# EAGLE library part CAMERA_BREAKOUT (library MRDT-2015-General)
Breakout board for the rover's main camera
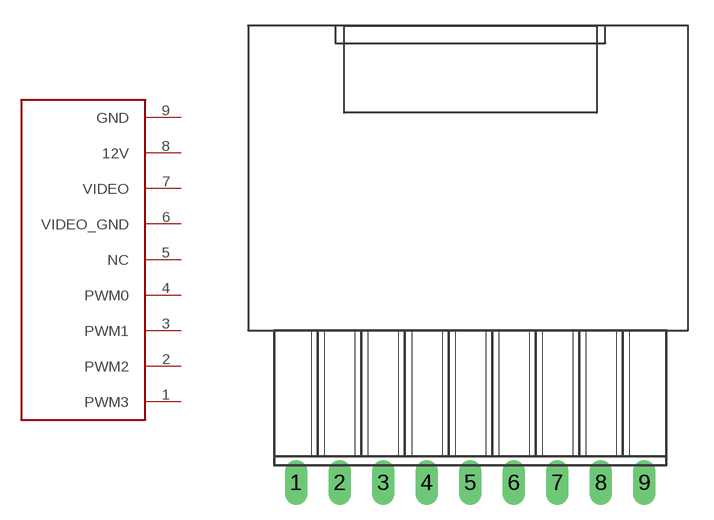
[diagram p12: symbol with the pads of CAM_CONNECTOR; footprint CAM_CONNECTOR]

Designator prefix -

## CAMERA_BREAKOUT  [CAM_CONNECTOR]
1  PWM3
2  PWM2
3  PWM1
4  PWM0
5  NC
6  VIDEO_GND
7  VIDEO
8  12V
9  GND

## Footprint CAM_CONNECTOR (pad centres in mm)
drill 0.813 long: 1 3.048,1.778; 2 5.588,1.778; 3 8.128,1.778; 4 10.668,1.778; 5 13.208,1.778; 6 15.748,1.778; 7 18.288,1.778; 8 20.828,1.778; 9 23.368,1.778